# Altium schematic symbol library Sch_Pin_1.SchLib: 1 symbol
Pins are listed as number, name and electrical type; pins without a type are passive.

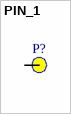
[diagram p0: symbol PIN_1]

## PIN_1
designator P?  (no BOM)
footprint PCB_Pin_1
pins: 0 Pin